# Altium footprint library Inductor_SMD.PcbLib: 587 footprints (part 18 of 37)
Each footprint in its own frame and in the unit in brackets; x right, y up, seen from the top. Pads: shape width x height; smd on the part's side, far side on the other; paste and mask are expansions set on the pad; w line width, h text height; cw(c..) or ccw(c..) is an arc to the next point about the centre after c.
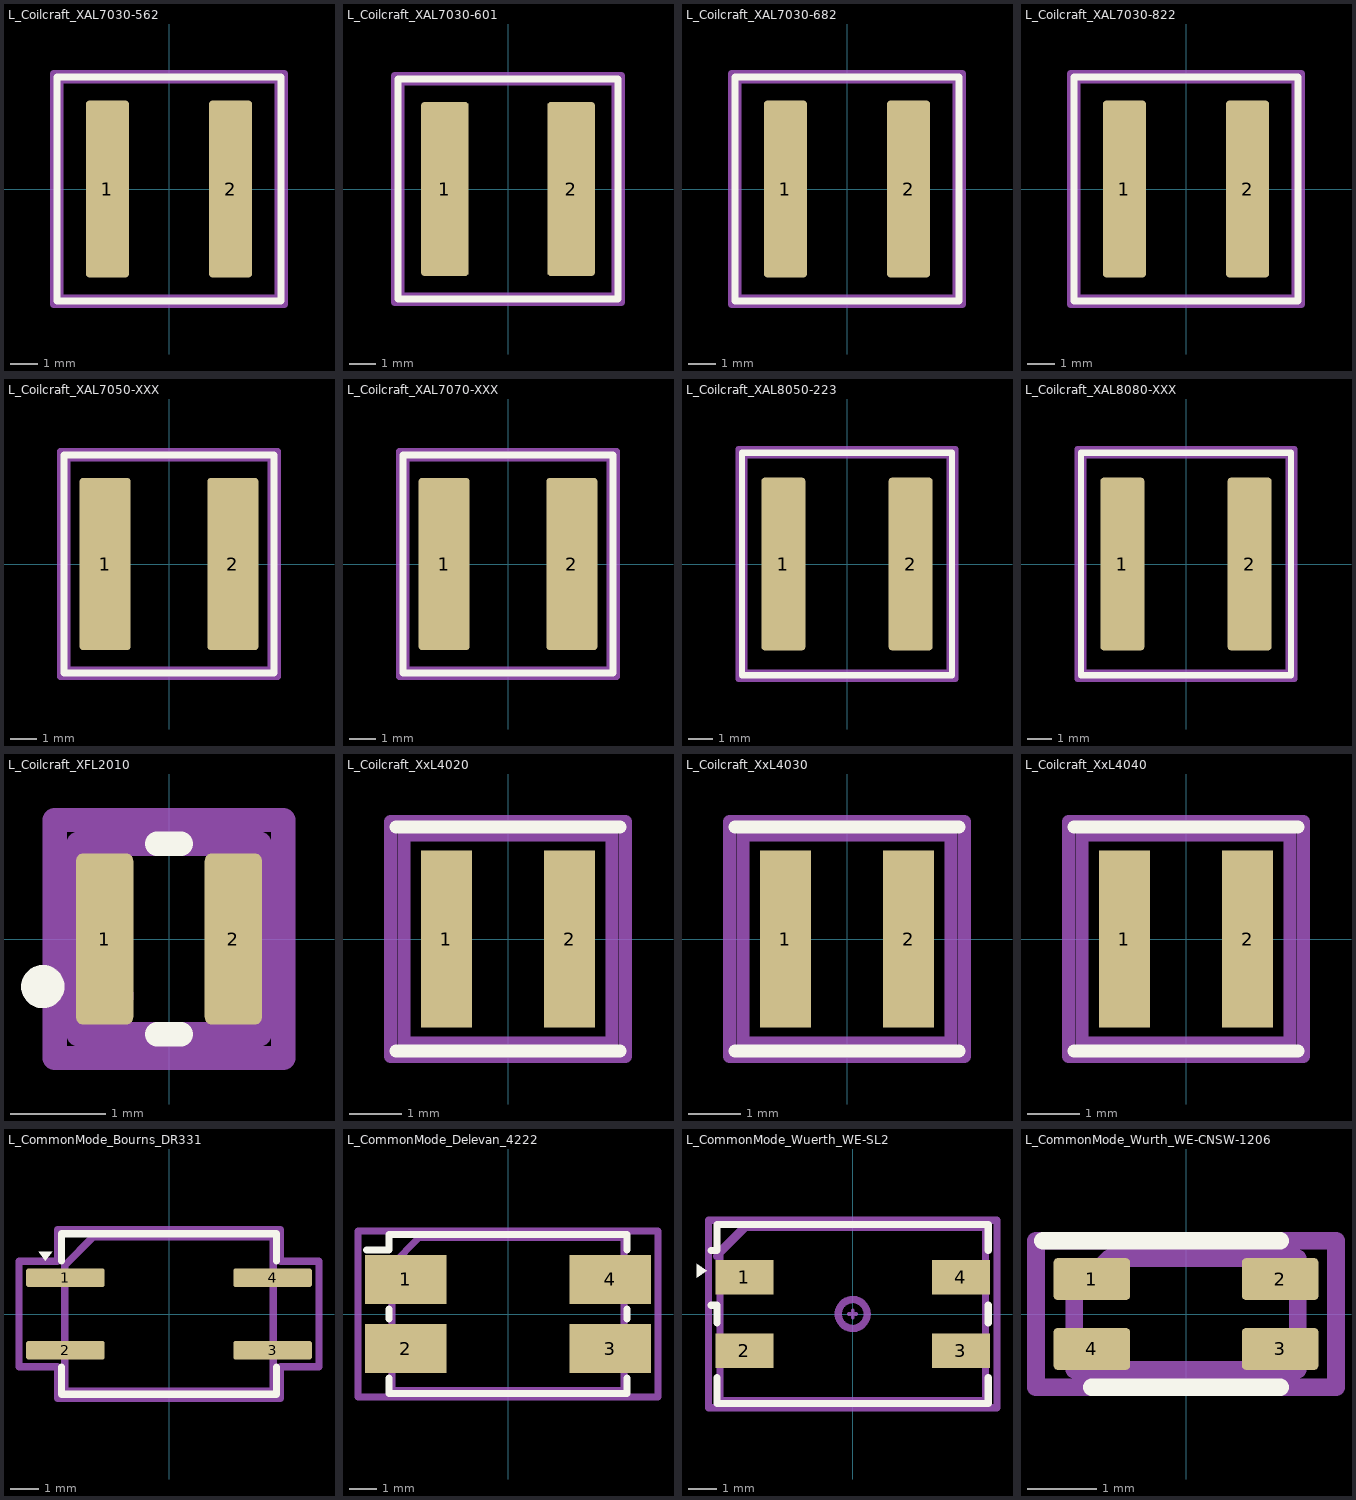
[diagram p17: the footprints below, top view; thin cyan lines are the x and y axes]

## L_Coilcraft_XAL7030-562 [mm] "L_Coilcraft_XAL7030-562"
pads (2):
  rrect16% 1.58x6.5 smd: 1(-2.26,0) 2(2.26,0)
F.SilkS:
  lines w0.254: -4.11,-4.11 -4.11,4.11 4.11,4.11 4.11,-4.11 -4.11,-4.11
Top Assembly:
  lines w0.254: -4,-4 -4,4 4,4 4,-4 -4,-4
  text "'.Designator'" at -4.047,-0.84 h1
Top Courtyard:
  lines w0.254: -4.25,-4.25 -4.25,4.25 4.25,4.25 4.25,-4.25 -4.25,-4.25
Top Designator:
  text ".Designator" at -7.618,-0.508 h1.52
3D body "L_Coilcraft_XAL7030-562.step": height 3.1, standoff 0, extent -4,-4 4,4

## L_Coilcraft_XAL7030-601 [mm] "L_Coilcraft_XAL7030-601"
pads (2):
  rrect14% 1.78x6.5 smd: 1(-2.36,0) 2(2.36,0)
F.SilkS:
  lines w0.254: -4.11,-4.11 -4.11,4.11 4.11,4.11 4.11,-4.11 -4.11,-4.11
Top Assembly:
  lines w0.254: -4,-4 -4,4 4,4 4,-4 -4,-4
  text "'.Designator'" at -4.047,-0.84 h1
Top Courtyard:
  lines w0.254: -4.25,-4.25 -4.25,4.25 4.25,4.25 4.25,-4.25 -4.25,-4.25
Top Designator:
  text ".Designator" at -7.618,-0.508 h1.52
3D body "L_Coilcraft_XAL7030-601.step": height 3.1, standoff 0, extent -4,-4 4,4

## L_Coilcraft_XAL7030-682 [mm] "L_Coilcraft_XAL7030-682"
pads (2):
  rrect16% 1.58x6.5 smd: 1(-2.26,0) 2(2.26,0)
F.SilkS:
  lines w0.254: -4.11,-4.11 4.11,-4.11 4.11,4.11 -4.11,4.11 -4.11,-4.11
Top Assembly:
  lines w0.254: -4,-4 4,-4 4,4 -4,4 -4,-4
  text "'.Designator'" at -4.047,-0.84 h1
Top Courtyard:
  lines w0.254: -4.25,-4.25 4.25,-4.25 4.25,4.25 -4.25,4.25 -4.25,-4.25
Top Designator:
  text ".Designator" at -7.618,-0.508 h1.52
3D body "L_Coilcraft_XAL7030-682.step": height 3.1, standoff 0, extent -4,-4 4,4

## L_Coilcraft_XAL7030-822 [mm] "L_Coilcraft_XAL7030-822"
pads (2):
  rrect16% 1.58x6.5 smd: 1(-2.26,0) 2(2.26,0)
F.SilkS:
  lines w0.254: -4.11,-4.11 -4.11,4.11 4.11,4.11 4.11,-4.11 -4.11,-4.11
Top Assembly:
  lines w0.254: -4,-4 -4,4 4,4 4,-4 -4,-4
  text "'.Designator'" at -4.047,-0.84 h1
Top Courtyard:
  lines w0.254: -4.25,-4.25 -4.25,4.25 4.25,4.25 4.25,-4.25 -4.25,-4.25
Top Designator:
  text ".Designator" at -7.618,-0.508 h1.52
3D body "L_Coilcraft_XAL7030-822.step": height 3.1, standoff 0, extent -4,-4 4,4

## L_Coilcraft_XAL7050-XXX [mm] "L_Coilcraft_XAL7050-XXX"
pads (2):
  rrect13% 1.92x6.5 smd: 1(-2.41,0) 2(2.41,0)
F.SilkS:
  lines w0.254: -3.96,-4.11 -3.96,4.11 3.96,4.11 3.96,-4.11 -3.96,-4.11
Top Assembly:
  lines w0.254: -3.85,-4 -3.85,4 3.85,4 3.85,-4 -3.85,-4
  text "'.Designator'" at -4.047,-0.84 h1
Top Courtyard:
  lines w0.254: -4.1,-4.25 -4.1,4.25 4.1,4.25 4.1,-4.25 -4.1,-4.25
Top Designator:
  text ".Designator" at -7.618,-0.508 h1.52
3D body "L_Coilcraft_XAL7050-XXX.step": height 5, standoff 0, extent -3.85,-4 3.85,4

## L_Coilcraft_XAL7070-XXX [mm] "L_Coilcraft_XAL7070-XXX"
pads (2):
  rrect13% 1.92x6.5 smd: 1(-2.41,0) 2(2.41,0)
F.SilkS:
  lines w0.254: -3.96,-4.11 3.96,-4.11 3.96,4.11 -3.96,4.11 -3.96,-4.11
Top Assembly:
  lines w0.254: -3.85,-4 3.85,-4 3.85,4 -3.85,4 -3.85,-4
  text "'.Designator'" at -4.047,-0.84 h1
Top Courtyard:
  lines w0.254: -4.1,-4.25 4.1,-4.25 4.1,4.25 -4.1,4.25 -4.1,-4.25
Top Designator:
  text ".Designator" at -7.618,-0.508 h1.52
3D body "L_Coilcraft_XAL7070-XXX.step": height 7, standoff 0, extent -3.85,-4 3.85,4

## L_Coilcraft_XAL8050-223 [mm] "L_Coilcraft_XAL8050-223"
pads (2):
  rrect14% 1.78x7 smd: 1(-2.58,0) 2(2.58,0)
F.SilkS:
  lines w0.254: -4.26,-4.51 4.26,-4.51 4.26,4.51 -4.26,4.51 -4.26,-4.51
Top Assembly:
  lines w0.254: -4.15,-4.4 4.15,-4.4 4.15,4.4 -4.15,4.4 -4.15,-4.4
  text "'.Designator'" at -4.047,-0.84 h1
Top Courtyard:
  lines w0.254: -4.4,-4.65 4.4,-4.65 4.4,4.65 -4.4,4.65 -4.4,-4.65
Top Designator:
  text ".Designator" at -7.618,-0.508 h1.52
3D body "L_Coilcraft_XAL8050-223.step": height 5, standoff 0, extent -4.15,-4.4 4.15,4.4

## L_Coilcraft_XAL8080-XXX [mm] "L_Coilcraft_XAL8080-XXX"
pads (2):
  rrect14% 1.78x7 smd: 1(-2.58,0) 2(2.58,0)
F.SilkS:
  lines w0.254: -4.26,-4.51 -4.26,4.51 4.26,4.51 4.26,-4.51 -4.26,-4.51
Top Assembly:
  lines w0.254: -4.15,-4.4 -4.15,4.4 4.15,4.4 4.15,-4.4 -4.15,-4.4
  text "'.Designator'" at -4.047,-0.84 h1
Top Courtyard:
  lines w0.254: -4.4,-4.65 -4.4,4.65 4.4,4.65 4.4,-4.65 -4.4,-4.65
Top Designator:
  text ".Designator" at -7.618,-0.508 h1.52
3D body "L_Coilcraft_XAL8080-XXX.step": height 8, standoff 0, extent -4.15,-4.4 4.15,4.4

## L_Coilcraft_XFL2010 [mm] "L_Coilcraft_XFL2010"
pads (2):
  rrect25% 0.6x1.8 smd: 1(-0.675,0) 2(0.675,0)
F.SilkS:
  circle w0.254: c-1.325,-0.5 r0.1
  lines w0.254: -0.125,-1 0.125,-1 ; -0.125,1 0.125,1
Top Assembly:
  circle w0.254: c-0.6,-0.6 r0.1
  lines w0.254: -0.95,-1 -0.95,1 0.95,1 0.95,-1 -0.95,-1
  text "'.Designator'" at 0.42,-2.023 h0.5
Top Courtyard:
  lines w0.254: -1.2,-1.25 -1.2,1.25 1.2,1.25 1.2,-1.25 -1.2,-1.25
Top Designator:
  text ".Designator" at -7.73,-0.583 h1.52

## L_Coilcraft_XxL4020 [mm] "L_Coilcraft_XxL4020"
pads (2):
  rect 0.98x3.4 smd: 1(-1.185,0) 2(1.185,0)
F.SilkS:
  lines w0.254: -2.154,-2.154 2.154,-2.154 ; -2.154,2.154 2.154,2.154
Top Assembly:
  lines w0.254: -2,-2 2,-2 2,2 -2,2 -2,-2
  text "'.Designator'" at -4.047,-0.84 h1
Top Courtyard:
  lines w0.254: -2.26,-2.26 2.26,-2.26 2.26,2.26 -2.26,2.26 -2.26,-2.26
Top Designator:
  text ".Designator" at -7.768,-0.508 h1.52

## L_Coilcraft_XxL4030 [mm] "L_Coilcraft_XxL4030"
pads (2):
  rect 0.98x3.4 smd: 1(-1.185,0) 2(1.185,0)
F.SilkS:
  lines w0.254: -2.154,-2.154 2.154,-2.154 ; -2.154,2.154 2.154,2.154
Top Assembly:
  lines w0.254: -2,-2 -2,2 2,2 2,-2 -2,-2
  text "'.Designator'" at -4.047,-0.84 h1
Top Courtyard:
  lines w0.254: -2.26,-2.26 -2.26,2.26 2.26,2.26 2.26,-2.26 -2.26,-2.26
Top Designator:
  text ".Designator" at -7.768,-0.508 h1.52

## L_Coilcraft_XxL4040 [mm] "L_Coilcraft_XxL4040"
pads (2):
  rect 0.98x3.4 smd: 1(-1.185,0) 2(1.185,0)
F.SilkS:
  lines w0.254: -2.154,-2.154 2.154,-2.154 ; -2.154,2.154 2.154,2.154
Top Assembly:
  lines w0.254: -2,-2 -2,2 2,2 2,-2 -2,-2
  text "'.Designator'" at -4.047,-0.84 h1
Top Courtyard:
  lines w0.254: -2.26,-2.26 -2.26,2.26 2.26,2.26 2.26,-2.26 -2.26,-2.26
Top Designator:
  text ".Designator" at -7.768,-0.508 h1.52

## L_CommonMode_Bourns_DR331 [mm] "L_CommonMode_Bourns_DR331"
pads (4):
  rrect25% 2.75x0.65 smd: 1(-3.625,1.27) 2(-3.625,-1.27) 3(3.625,-1.27) 4(3.625,1.27)
F.SilkS:
  region: -4.325,1.855 -4.565,2.185 -4.085,2.185
  lines w0.254: -3.76,-1.855 -3.76,-2.81 0,-2.81 3.76,-2.81 3.76,-1.855 ; -3.76,1.855 -3.76,2.81 0,2.81 3.76,2.81 3.76,1.855
Top Assembly:
  lines w0.254: -3.65,-2.7 -3.65,1.7 -2.65,2.7 3.65,2.7 3.65,-2.7 -3.65,-2.7
  text "'.Designator'" at -4.047,-0.84 h1
Top Courtyard:
  lines w0.254: -5.25,-1.85 -5.25,1.85 -3.9,1.85 -3.9,2.95 3.9,2.95 3.9,1.85 5.25,1.85 5.25,-1.85 3.9,-1.85 3.9,-2.95 -3.9,-2.95 -3.9,-1.85 -5.25,-1.85
Top Designator:
  text ".Designator" at -7.618,-0.508 h1.52

## L_CommonMode_Delevan_4222 [mm] "L_CommonMode_Delevan_4222"
pads (4):
  rect 3x1.8 smd: 1(-3.75,1.27) 2(-3.75,-1.27) 3(3.75,-1.27) 4(3.75,1.27)
F.SilkS:
  lines w0.254: -5.19,2.35 -4.365,2.35 -4.365,2.91 4.365,2.91 4.365,2.35 ; -4.365,-2.35 -4.365,-2.91 4.365,-2.91 4.365,-2.35 ; -4.365,-0.19 -4.365,0.19 ; 4.365,-0.19 4.365,0.19
Top Assembly:
  lines w0.254: -4.255,-2.8 -4.255,1.8 -3.255,2.8 4.255,2.8 4.255,-2.8 -4.255,-2.8
  text "'.Designator'" at -4.047,-0.84 h1
Top Courtyard:
  lines w0.254: -5.5,-3.05 -5.5,3.05 5.5,3.05 5.5,-3.05 -5.5,-3.05
Top Designator:
  text ".Designator" at -7.618,-0.508 h1.52

## L_CommonMode_Wuerth_WE-SL2 [mm] "L_CommonMode_Wuerth_WE-SL2"
pads (4):
  rect 2x1.2 smd: 1(-3.75,1.27) 2(-3.75,-1.27) 3(3.75,-1.27) 4(3.75,1.27)
F.SilkS:
  region: -5.066,1.494 -5.396,1.254 -5.396,1.734
  lines w0.254: -4.9,0.3 -4.7,0.3 -4.7,-0.3 ; -4.8,2.2 -4.9,2.2 -4.7,2.2 -4.7,3.1 4.7,3.1 4.7,2.2 ; -4.7,-2.2 -4.7,-3.1 4.7,-3.1 4.7,-2.2 ; 4.7,-0.3 4.7,0.3
Top Component Center:
  lines w0.127: -0.127,0 0.127,0 ; 0,-0.127 0,0.127
Top Assembly:
  lines w0.254: -4.6,2.2 -3.8,3 ; -4.71,2 -4.6,2 -4.6,-3 4.6,-3 4.6,3 -3.6,3 -3.71,3 -4.71,2
Top Courtyard:
  lines w0.254: -5,-3.25 5,-3.25 5,3.25 -5,3.25 -5,-3.25
Top Designator:
  text ".Designator" at -3.434,-0.345 h1.52
Top Glue Points:
  circle w0.254: c0,0 r0.5
3D body "74422x.stp": height 5, standoff 0, extent -4.6,-3 4.6,3

## L_CommonMode_Wurth_WE-CNSW-1206 [mm] "L_CommonMode_Wurth_WE-CNSW-1206"
pads (4):
  rrect20% 1.1x0.6 smd: 1(-1.35,0.5) 2(1.35,0.5) 3(1.35,-0.5) 4(-1.35,-0.5)
F.SilkS:
  lines w0.254: -2.05,1.05 1.35,1.05 ; -1.35,-1.05 1.35,-1.05
Top Assembly:
  lines w0.254: -1.6,-0.8 1.6,-0.8 1.6,0.8 -1.1,0.8 -1.6,0.3 -1.6,-0.8
  text "'.Designator'" at -2.833,-0.588 h0.7
Top Courtyard:
  lines w0.254: -2.15,-1.05 2.15,-1.05 2.15,1.05 -2.15,1.05 -2.15,-1.05
Top Designator:
  text ".Designator" at -7.723,-0.508 h1.52